# Altium schematic symbol library MF-RHT200_32-2.SchLib: 1 symbol
Pins are listed as number, name and electrical type; pins without a type are passive.

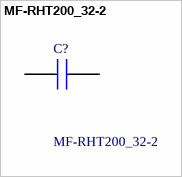
[diagram p0: symbol MF-RHT200_32-2]

## MF-RHT200_32-2
designator C?
BOURNS - MF-RHT200/32-2 - FUSE, RESETTABLE PTC, AEC-Q200, 32V, THD; Geometry.Height: 14mm; Mouser Part Number: 652-MF-RHT200/32-2; Mouser Price/Stock: https://www.mouser.co.uk/ProductDetail/Bourns/MF-RHT200-32-2?qs=0lQeLiL1qyakA%2F3J%2FiyUHw%3D%3D; Manufacturer_Name: Bourns; Manufacturer_Part_Number: MF-RHT200/32-2; Datasheet Link: https://componentsearchengine.com/Datasheets/1/MF-RHT200_32-2.pdf
footprint MFRHT200322
pins: 1, 2